# EAGLE library part AT89C1051 (library 0atmel89cxxxx)
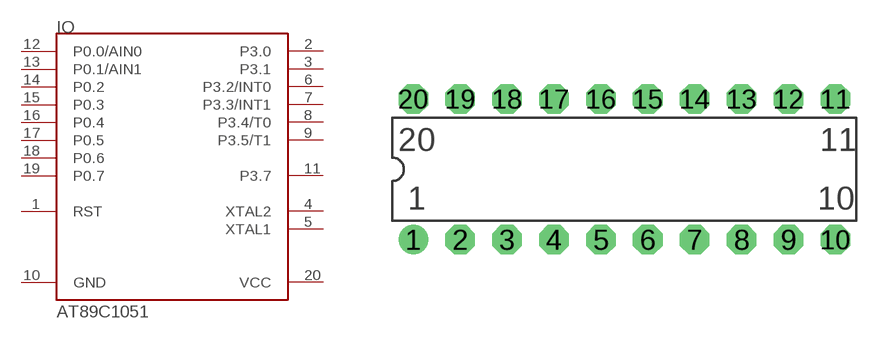
[diagram p2: symbol with the pads of PDIP20; footprint PDIP20]

Designator prefix IO

## AT89C1051  [PDIP20]
1  RST  pwr
2  P3.0
3  P3.1
4  XTAL2  pwr
5  XTAL1  pwr
6  P3.2/INT0
7  P3.3/INT1
8  P3.4/T0
9  P3.5/T1
10  GND  pwr
11  P3.7
12  P0.0/AIN0
13  P0.1/AIN1
14  P0.2
15  P0.3
16  P0.4
17  P0.5
18  P0.6
19  P0.7
20  VCC  pwr

## Footprint PDIP20 (pad centres in mm)
drill 0.813 pad 1.6 round: 1 -11.43,-3.81
drill 0.813 pad 1.6 octagon: 2 -8.89,-3.81; 3 -6.35,-3.81; 4 -3.81,-3.81; 5 -1.27,-3.81; 6 1.27,-3.81; 7 3.81,-3.81; 8 6.35,-3.81; 9 8.89,-3.81; 10 11.43,-3.81; 11 11.43,3.81; 12 8.89,3.81; 13 6.35,3.81; 14 3.81,3.81; 15 1.27,3.81; 16 -1.27,3.81; 17 -3.81,3.81; 18 -6.35,3.81; 19 -8.89,3.81; 20 -11.43,3.81